# EAGLE library part ATX_24PIN_CONNECTOR_W_VALUES (library myLib-03-Common)
ATX PSU 24pin Mini FIT connector 24 pol Source: http://www.molex.com
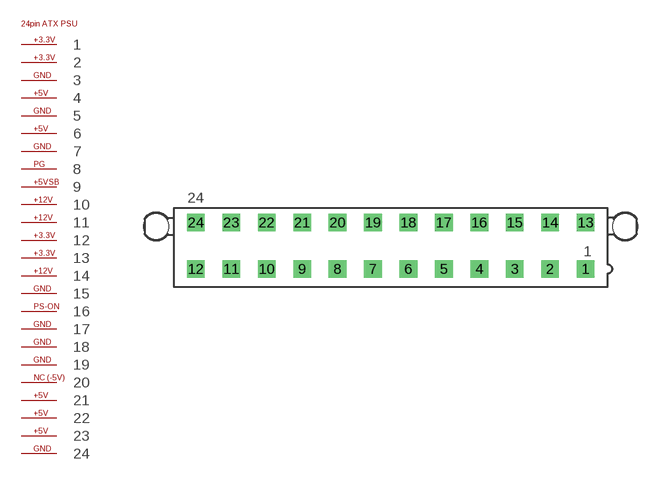
[diagram p2: symbol with the pads of ATX_24PIN_CONNECTOR; footprint ATX_24PIN_CONNECTOR]

Designator prefix X

## ATX_24PIN_CONNECTOR_W_VALUES  [ATX_24PIN_CONNECTOR]
1  1  pas
2  2  pas
3  3
4  4
5  5
6  6
7  7
8  8
9  9
10  10
11  11
12  12
13  13
14  14
15  15
16  16
17  17
18  18
19  19
20  20
21  21
22  22
23  23
24  24

## Footprint ATX_24PIN_CONNECTOR (pad centres in mm)
Mini-Fit Jr.™ Vertical Header, 4.20mm Pitch, Dual Row, 24 Circuits, without Snap-in Plastic Peg PCB Lock, Tin, Natural Datasheet <http://www.molex.com/pdm_docs/sd/039281243_sd.pdf>
drill 1.4 square: 1 23.1,-2.75; 2 18.9,-2.75; 3 14.7,-2.75; 4 10.5,-2.75; 5 6.3,-2.75; 6 2.1,-2.75; 7 -2.1,-2.75; 8 -6.3,-2.75; 9 -10.5,-2.75; 10 -14.7,-2.75; 11 -18.9,-2.75; 12 -23.1,-2.75; 13 23.1,2.75; 14 18.9,2.75; 15 14.7,2.75; 16 10.5,2.75; 17 6.3,2.75; 18 2.1,2.75; 19 -2.1,2.75; 20 -6.3,2.75; 21 -10.5,2.75; 22 -14.7,2.75; 23 -18.9,2.75; 24 -23.1,2.75
hole 3 at 27.8,2.29
hole 3 at -27.8,2.29